# Altium footprint library HAH3DR_S07_SP3.PCBLIB: 1 footprints
Each footprint in its own frame and in the unit in brackets; x right, y up, seen from the top. Pads: shape width x height; smd on the part's side, far side on the other; paste and mask are expansions set on the pad; w line width, h text height; cw(c..) or ccw(c..) is an arc to the next point about the centre after c.
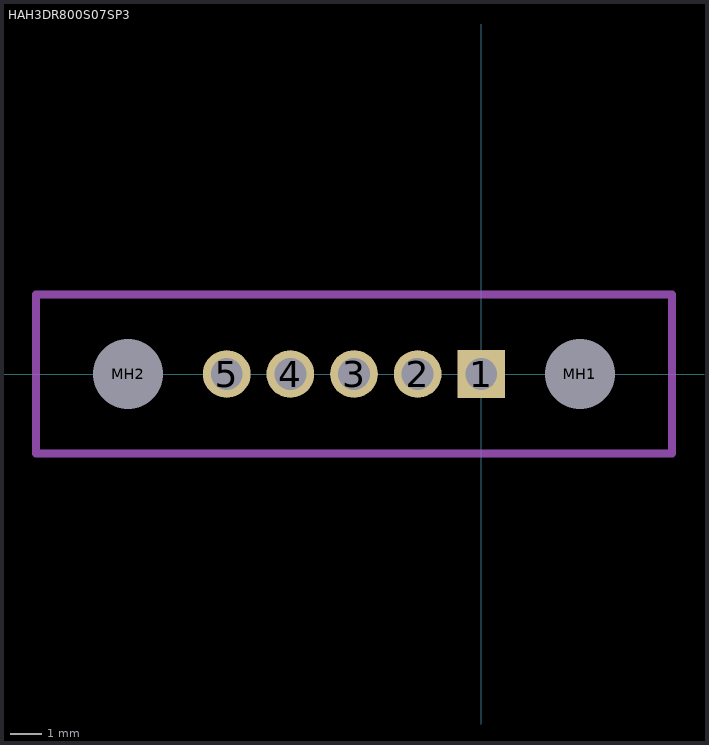
[diagram p0: the footprint, top view; thin cyan lines are the x and y axes]

## HAH3DR800S07SP3 [mm]
pads (7):
  rect 1.5x1.5 hole 1: 1(0,0)
  round 1.5 hole 1: 2(-2,0) 3(-4,0) 4(-6,0) 5(-8,0)
  round 1.1 hole 2.2 unplated: MH1(3.1,0) MH2(-11.1,0)
Top Courtyard:
  lines w0.254: -14,-2.5 6,-2.5 6,2.5 -14,2.5 -14,-2.5
Top Designator:
  text ".Designator" at -13.55,3.35 h1.2
Top Value:
  text ".Value" at -13.55,1.15 h1.2